# EAGLE library part NID60S24-12 (library NID60S24-12)
DC DC CONVERTER 12V 48W Source: Datasheet <https://componentsearchengine.com/Datasheets/1/NID60S24-12.pdf>
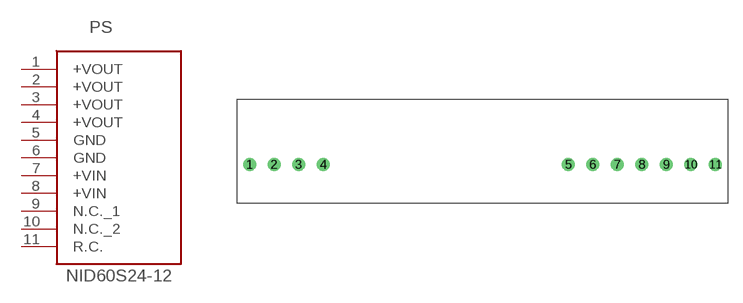
[diagram p0: symbol with the pads of NID30S24-12; footprint NID30S24-12]

Designator prefix PS

## NID60S24-12 (DESCRIPTION: DC DC CONVERTER 12V 48W; HEIGHT: mm; MANUFACTURER_NAME: Mean Well; MANUFACTURER_PART_NUMBER: NID60S24-12; MOUSER_PART_NUMBER: 709-NID60S24-12; MOUSER_PRICE-STOCK: https://www.mouser.com/Search/Refine.aspx?Keyword=709-NID60S24-12)  [NID30S24-12]
1  +VOUT  sup
2  +VOUT  sup
3  +VOUT  sup
4  +VOUT  sup
5  GND  pas
6  GND  pas
7  +VIN  pwr
8  +VIN  pwr
9  N.C._1  nc
10  N.C._2  nc
11  R.C.  pas

## Footprint NID30S24-12 (pad centres in mm)
NID30S24-12
drill 0.84 pad 1.26: 1 -24.13,-1.35; 2 -21.59,-1.35; 3 -19.05,-1.35; 4 -16.51,-1.35; 5 8.89,-1.35; 6 11.43,-1.35; 7 13.97,-1.35; 8 16.51,-1.35; 9 19.05,-1.35; 10 21.59,-1.35; 11 24.13,-1.35